# EAGLE library part TPS61280 (library bschulz)
TPS6280A - Low/Wide Voltage Battery Front-End DC/DC Converter Characteristics: Vin: 2.3V ~ 4.8V Output Current: >4A Peak IQ: 3μA (typ), 20μA (max) Operating Temperature: -40°C to 85°C Digikey: 296-TPS61280AYFFTCT-ND <https://www.digikey.com/en/products/detail/texas-instruments/TPS61280AYFFT/6572488>
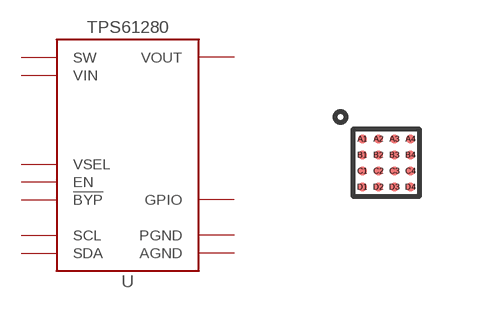
[diagram p151: symbol with the pads of YFP0016; footprint YFP0016]

Designator prefix U

## TPS61280 (DIGIKEY: 296-TPS61280AYFFTCT-ND; MF: TI; MPN: TPS61280AYFFT)  [YFP0016]
A1  EN  in
A2  GPIO  oc
A3  VIN  pwr
A4  VIN  pwr
B1  VSEL  in
B2  SCL  in
B3  VOUT  pwr
B4  VOUT  pwr
C1  !BYP  in
C2  SDA
C3  SW  pwr
C4  SW  pwr
D1  AGND  pwr
D2  PGND  pwr
D3  PGND  pwr
D4  PGND  pwr

## Footprint YFP0016 (pad centres in mm)
BGA, 16 pin, 4x4 pattern, 0.4mm pitch Datasheet <https://www.ti.com/lit/ds/slvscg9b/slvscg9b.pdf?ts=1629811902088&ref_url=https%253A%252F%252Fwww.google.com%252F>
smd 0.23 x 0.23: A1 -0.6,0.6; A2 -0.2,0.6; A3 0.2,0.6; A4 0.6,0.6; B1 -0.6,0.2; B2 -0.2,0.2; B3 0.2,0.2; B4 0.6,0.2; C1 -0.6,-0.2; C2 -0.2,-0.2; C3 0.2,-0.2; C4 0.6,-0.2; D1 -0.6,-0.6; D2 -0.2,-0.6; D3 0.2,-0.6; D4 0.6,-0.6